# Altium footprint library SOD375X160X135L40X60.PcbLib: 1 footprints
Each footprint in its own frame and in the unit in brackets; x right, y up, seen from the top. Pads: shape width x height; smd on the part's side, far side on the other; paste and mask are expansions set on the pad; w line width, h text height; cw(c..) or ccw(c..) is an arc to the next point about the centre after c.
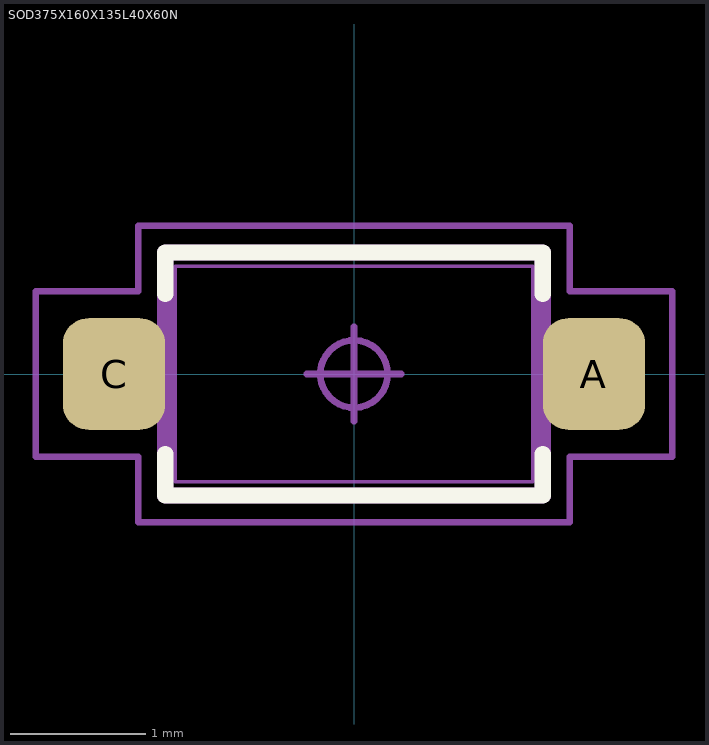
[diagram p0: the footprint, top view; thin cyan lines are the x and y axes]

## SOD375X160X135L40X60N [mm] "Diode, Small Outline Diode (SOD); 2.65 mm L X 1.60 mm W X 1.35 mm H body"
height 1.35
pads (2):
  rrect50% 0.76x0.829 smd: A(1.78,0) C(-1.78,0)
Top Overlay:
  lines w0.12: -1.4,-0.594 -1.4,-0.9 1.4,-0.9 1.4,-0.594 ; -1.4,0.594 -1.4,0.9 1.4,0.9 1.4,0.594
Mechanical 3:
  lines w0.12: -1.4,-0.9 1.4,-0.9 1.4,0.9 -1.4,0.9 -1.4,-0.9
Mechanical 5:
  lines w0.025: -1.875,-0.3 -1.875,0.3 -1.475,0.3 -1.475,-0.3 -1.875,-0.3 ; 1.475,-0.3 1.875,-0.3 1.875,0.3 1.475,0.3 1.475,-0.3
Mechanical 7:
  circle w0.05: c0,0 r0.25
  lines w0.025: -1.325,-0.8 1.325,-0.8 1.325,0.8 -1.325,0.8 -1.325,-0.8
  lines w0.05: -0.35,0 0.35,0 ; 0,-0.35 0,0.35 ; -2.36,-0.614 -1.6,-0.614 -1.6,-1.1 1.6,-1.1 1.6,-0.614 2.36,-0.614 2.36,0.614 1.6,0.614 1.6,1.1 -1.6,1.1 -1.6,0.614 -2.36,0.614 -2.36,-0.614
Mechanical 9:
  text ".Designator" at -3.429,1.524 h0.76
3D body "SOD375X160X135L40X60.STEP": height 1.35, standoff 0, extent -1.875,-0.8 1.875,0.8